# Altium schematic symbol library current_sense.SchLib: 4 symbols
Pins are listed as number, name and electrical type; pins without a type are passive.

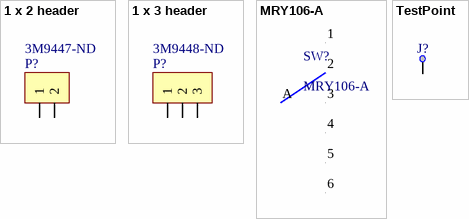
[diagram p0: symbols 1 x 2 header to TestPoint]

## 1 x 2 header
designator P?  Supplier Part Number 1: 3M9447-ND  (hidden comment: 1 x 2 header)
100 mils standard header; Supplier 1: Digi-Key
footprint 1x2 header (1x2 header, 100 mils)
pins: 1, 2

## 1 x 3 header
designator P?  Supplier Part Number 1: 3M9448-ND  (hidden comment: 1 x 3 header)
100 mils standard header; Supplier 1: Digi-Key
footprint 1x3 header (1x3 header, 100 mils)
pins: 1, 2, 3

## MRY106-A
designator SW?
SW ROTARY SP BLK KNOB 125V; Supplier 1: Digi-Key; Supplier Part Number 1: 360-2379-ND
footprint MRY switch
pins: 1, 2, 3, 4, 5, 6, A

## TestPoint
designator J?, comment 5004  (value not drawn)
TEST POINT PC MINI .040"D YELLOW; Supplier 1: Digi-Key; Supplier Part Number 1: 5004K-ND; datasheet: http://mail.keyelco.com/ENG._DEPT/PDF%20CAT%20NO%20Drawings/5004.pdf
footprint TestPoint
pins: 1 TB